# Altium footprint library PcbLib1.PcbLib: 9 footprints
Each footprint in its own frame and in the unit in brackets; x right, y up, seen from the top. Pads: shape width x height; smd on the part's side, far side on the other; paste and mask are expansions set on the pad; w line width, h text height; cw(c..) or ccw(c..) is an arc to the next point about the centre after c.
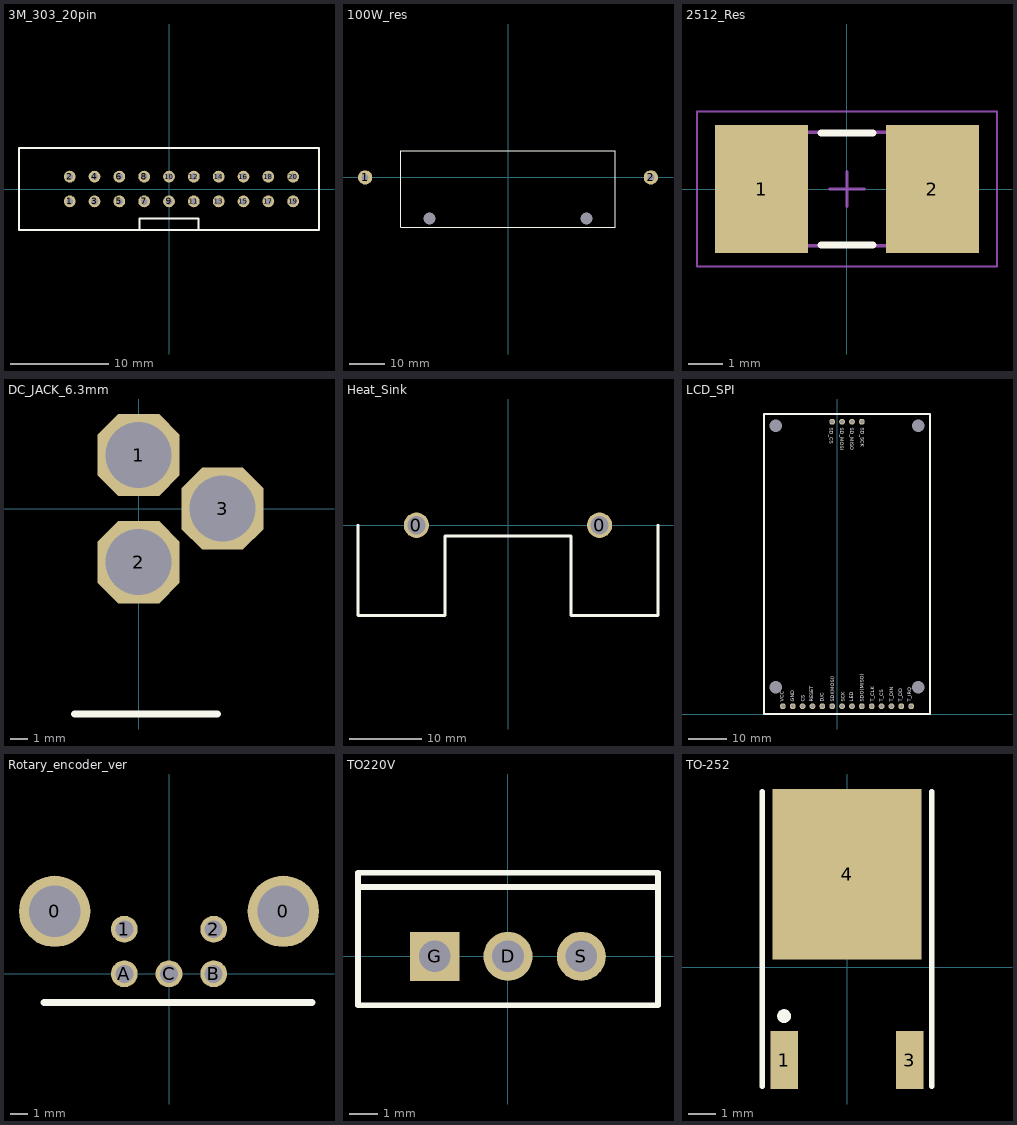
[diagram p0: the footprints below, top view; thin cyan lines are the x and y axes]

## 3M_303_20pin [mm]
pads (20):
  round 1.2 hole 0.7: 1(-10.16,-1.27) 2(-10.16,1.27) 3(-7.62,-1.27) 4(-7.62,1.27) 5(-5.08,-1.27) 6(-5.08,1.27) 7(-2.54,-1.27) 8(-2.54,1.27) 9(0,-1.27) 10(0,1.27) 11(2.54,-1.27) 12(2.54,1.27) 13(5.08,-1.27) 14(5.08,1.27) 15(7.62,-1.27) 16(7.62,1.27) 17(10.16,-1.27) 18(10.16,1.27) 19(12.7,-1.27) 20(12.7,1.27)
Top Overlay:
  lines w0.2: -3,-4.2 -3,-3 3,-3 3,-4.2 ; -15.35,-4.2 -15.35,4.2 15.35,4.2 15.35,-4.2 -15.35,-4.2
3D body: height 10, standoff -4.9, extent -15.21,-4.45 17.81,4.75

## 100W_res [mm]
pads (4):
  rrect50% 0x0 hole 3.3 unplated: 0(-22,-11.5) 0(22,-11.5)
  round 4 hole 2: 1(-40,0) 2(40,0)
Top Overlay:
  lines w0.254: -30,-14 30,-14 30,7.5 -30,7.5 -30,-14

## 2512_Res [mm] "2512 Resitor"
height 0.8
pads (2):
  rect 2.7x3.7 smd: 1(-2.475,0) 2(2.475,0)
Top Overlay:
  lines w0.2: -0.75,-1.625 0.75,-1.625 ; -0.75,1.625 0.75,1.625
Mechanical 13:
  lines w0.1: -3.25,-1.65 3.25,-1.65 3.25,1.65 -3.25,1.65 -3.25,-1.65
Mechanical 15:
  lines w0.05: -4.35,-2.25 4.35,-2.25 4.35,2.25 -4.35,2.25 -4.35,-2.25
  lines w0.1: -0.5,0 0.5,0 ; 0,-0.5 0,0.5
3D body: height 0.8, standoff 0, extent 1.45,-1.65 3.25,1.65
3D body: height 0.8, standoff 0, extent -3.25,-1.65 -1.45,1.65
3D body: height 0.8, standoff 0, extent -1.45,-1.65 1.45,1.65

## DC_JACK_6.3mm [mm]
pads (3):
  oct 4.6x4.6 hole 3.7: 1(0,3) 2(0,-3) 3(4.7,0)
Top Overlay:
  lines w0.4: -3.6,-11.5 4.4,-11.5
3D body: height 11, standoff -3.5, extent -4.4,-10.6 5,3.8
3D body: height 4.5, standoff -4.9, extent -6.4,-10 8,4.5

## Heat_Sink [mm]
pads (2):
  round 3.5 hole 2.5: 0(-12.7,0) 0(12.7,0)
Top Overlay:
  lines w0.4: -20.8,0 -20.8,-12.5 -8.75,-12.5 -8.75,-1.5 8.75,-1.5 8.75,-12.5 20.8,-12.5 20.8,0
3D body: height 63.5, standoff -3.8, extent -20.8,-12.6 20.8,12.531

## LCD_SPI [mm] "http://www.ebay.co.uk/itm/240x320-2-4-SPI-TFT-LCD-Touch-Panel-Serial-Port-Module-with-PBC-ILI9341-5V-3-3V-/121414443081?pt=UK_BOI_Electrical_Components_Supplies_ET&hash=item1c44dd6049"
pads (22):
  round 0 hole 3.2 unplated: 0(-15.82,6.92) 0(-15.82,74.18) 0(20.9,6.92) 0(20.9,74.18)
  round 1.5 hole 1: 1(-13.97,2) 2(-11.43,2) 3(-8.89,2) 4(-6.35,2) 5(-3.81,2) 6(-1.27,2) 7(1.27,2) 8(3.81,2) 9(6.35,2) 10(8.89,2) 11(11.43,2) 12(13.97,2) 13(16.51,2) 14(19.05,2) 15(-1.27,75.18) 16(1.27,75.18) 17(3.81,75.18) 18(6.35,75.18)
Top Overlay:
  lines w0.4: -18.82,0 23.9,0 ; -18.82,0 23.9,0 ; -18.82,0 -18.82,77.18 23.9,77.18 23.9,0
  text "VCC" at -13.716,3.143 h0.9
  text "GND" at -11.049,3.143 h0.9
  text "CS" at -8.382,3.143 h0.9
  text "RESET" at -6.096,3.143 h0.9
  text "D/C" at -3.429,3.143 h0.9
  text "SDI(MOSI)" at -0.762,3.143 h0.9
  text "SCK" at 1.905,3.143 h0.9
  text "LED" at 4.191,3.143 h0.9
  text "SDO(MISO)" at 6.858,3.143 h0.9
  text "T_CLK" at 9.525,3.143 h0.9
  text "T_CS" at 11.811,3.143 h0.9
  text "T_DIN" at 14.478,3.143 h0.9
  text "T_DD" at 16.764,3.143 h0.9
  text "T_IRQ" at 19.05,3.143 h0.9
  text "SD_CS" at -1.905,73.6 h0.9
  text "SD_MOSI" at 0.762,73.6 h0.9
  text "SD_MISO" at 3.429,73.6 h0.9
  text "SD_SCK" at 6.1,73.6 h0.9
3D body: height 6, standoff 5, extent -18.85,-0.02 23.9,77.18

## Rotary_encoder_ver [mm]
pads (7):
  round 4 hole 2.9: 0(-6.4,3.5) 0(6.4,3.5)
  round 1.5 hole 1: 1(-2.5,2.5) 2(2.5,2.5) A(-2.5,0) B(2.5,0) C(0,0)
Top Overlay:
  lines w0.4: -7,-1.6 8,-1.6

## TO220V [mm] "TO, Thru-Hole, Vertical, Heatsink Mounted; 3 In-Line Leads; Pitch 2.54 mm; Pin sequence 1, 3, 2"
height 19.4
pads (3):
  round 1.7 hole 1.1: D(0,0) S(2.54,0)
  rect 1.7x1.7 hole 1.1: G(-2.54,0)
Top Overlay:
  lines w0.2: -5.2,2.4 5.2,2.4 ; -5.2,-1.7 -5.2,2.9 5.2,2.9 5.2,-1.7 -5.2,-1.7
3D body: height 18.8, standoff -9.9, extent -5.21,-1.46 5.21,3

## TO-252 [mm] "D-PAK/TO-252-AA; 3 Leads (1 Cropped); Body 10.1 (inc. leads) x 6.6 mm (LxW max)"
height 2.4
pads (3):
  rect 1x2.1 smd: 1(-2.285,-3.375) 3(2.285,-3.375)
  rect 5.4x6.2 smd: 4(0,3.375)
Top Overlay:
  circle w0.25: c-2.285,-1.775 r0.125
  lines w0.2: -3.085,-4.325 -3.085,6.375 ; 3.085,-4.325 3.085,6.375